# EAGLE library part OPA567 (library nonolith)
OPA567: 2a RRIO CMOS OPA / QFN12
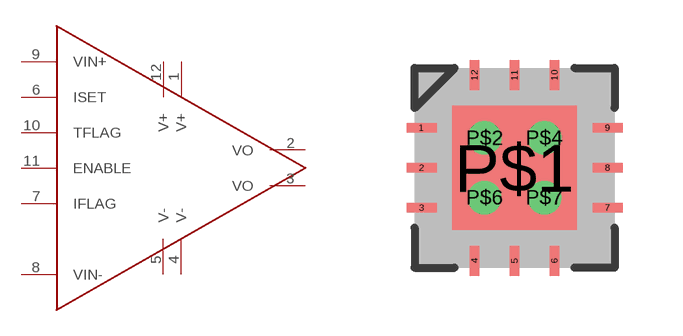
[diagram p0: symbol with the pads of QFN-12; footprint QFN-12]

Designator prefix -

## OPA567  [QFN-12]
1  V+  pwr
2  VO
3  VO
4  V-  pwr
5  V-  pwr
6  ISET
7  IFLAG
8  VIN-  in
9  VIN+  in
10  TFLAG
11  ENABLE  in
12  V+  pwr

## Footprint QFN-12 (pad centres in mm)
QFN12
smd 0.75 x 0.24: 1 -2.365,0.96; 2 -2.365,-0.04; 3 -2.365,-1.04; 7 2.285,-1.04; 8 2.285,-0.04; 9 2.285,0.96
smd 0.24 x 0.75: 4 -1.04,-2.365; 5 -0.04,-2.365; 6 0.96,-2.365; 10 0.96,2.285; 11 -0.04,2.285; 12 -1.04,2.285
smd 3.12 x 3.12: P$1 -0.04,-0.04
drill 0.33 round: P$2 -0.786,0.706; P$4 0.706,0.706; P$6 -0.786,-0.786; P$7 0.706,-0.786